# Altium footprint library CHIP_RES.PcbLib: 4 footprints
Each footprint in its own frame and in the unit in brackets; x right, y up, seen from the top. Pads: shape width x height; smd on the part's side, far side on the other; paste and mask are expansions set on the pad; w line width, h text height; cw(c..) or ccw(c..) is an arc to the next point about the centre after c.
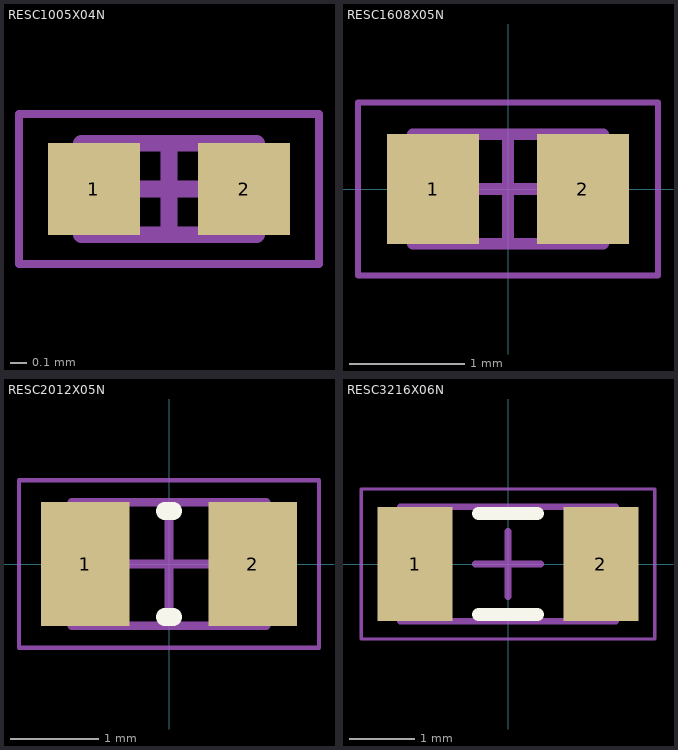
[diagram p0: the footprints below, top view; thin cyan lines are the x and y axes]

## RESC1005X04N [mm] "Chip Resistor, 2-Leads, Body 1,00x0,50mm, IPC Medium Density"
height 0.4
pads (2):
  rect 0.55x0.55 smd: 1(-3.15,1.65) 2(-2.25,1.65)
Mechanical 13:
  lines w0.1: -3.225,1.375 -2.175,1.375 -2.175,1.925 -3.225,1.925 -3.225,1.375
Mechanical 15:
  lines w0.05: -3.6,1.2 -1.8,1.2 -1.8,2.1 -3.6,2.1 -3.6,1.2
  lines w0.1: -2.975,1.65 -2.425,1.65 ; -2.7,1.375 -2.7,1.925
3D body "RESC1005X04N.step": height 0.4, standoff 0, extent -3.225,1.375 -2.175,1.925

## RESC1608X05N [mm] "Chip Resistor, 2-Leads, Body 1,58x0,85mm, IPC Medium Density"
height 0.5
pads (2):
  rect 0.8x0.95 smd: 1(-0.65,0) 2(0.65,0)
Mechanical 13:
  lines w0.1: -0.825,-0.475 0.825,-0.475 0.825,0.475 -0.825,0.475 -0.825,-0.475
Mechanical 15:
  lines w0.05: -1.3,-0.75 1.3,-0.75 1.3,0.75 -1.3,0.75 -1.3,-0.75
  lines w0.1: -0.475,0 0.475,0 ; 0,-0.475 0,0.475
3D body "RESC1608X05N.step": height 0.5, standoff 0, extent -0.825,-0.475 0.825,0.475

## RESC2012X05N [mm] "Chip Resistor, 2-Leads, Body 2,05x1,25mm, IPC Medium Density"
height 0.5
pads (2):
  rect 1x1.4 smd: 1(-0.95,0) 2(0.95,0)
Top Overlay:
  lines w0.2: -0.05,-0.6 0.05,-0.6 ; -0.05,0.6 0.05,0.6
Mechanical 13:
  lines w0.1: -1.1,-0.7 1.1,-0.7 1.1,0.7 -1.1,0.7 -1.1,-0.7
Mechanical 15:
  lines w0.05: -1.7,-0.95 1.7,-0.95 1.7,0.95 -1.7,0.95 -1.7,-0.95
  lines w0.1: -0.5,0 0.5,0 ; 0,-0.5 0,0.5
3D body "RESC2012X05N.step": height 0.5, standoff 0, extent -1.1,-0.7 1.1,0.7

## RESC3216X06N [mm] "Chip Resistor, 2-Leads, Body 3,15x1,60mm, IPC Medium Density"
height 0.6
pads (2):
  rect 1.15x1.75 smd: 1(-1.425,0) 2(1.425,0)
Top Overlay:
  lines w0.2: -0.45,-0.775 0.45,-0.775 ; -0.45,0.775 0.45,0.775
Mechanical 13:
  lines w0.1: -1.65,-0.875 1.65,-0.875 1.65,0.875 -1.65,0.875 -1.65,-0.875
Mechanical 15:
  lines w0.05: -2.25,-1.15 2.25,-1.15 2.25,1.15 -2.25,1.15 -2.25,-1.15
  lines w0.1: -0.5,0 0.5,0 ; 0,-0.5 0,0.5
3D body "RESC3216X06N.step": height 0.6, standoff 0, extent -1.65,-0.875 1.65,0.875